# Altium integrated library Diodes - Rectifiers - Single.IntLib: 3 symbols
Pins are listed as number, name and electrical type; pins without a type are passive.

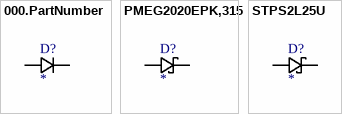
[diagram p0: symbols 000.PartNumber to STPS2L25U]

## 000.PartNumber
designator D?
Digikey Description; Manufacturer: *; Series: *; Package: *; Diode Type: *; Current - Average Rectified (Io): *; Speed: *; Capacitance @ Vr, F: *; Mounting Type: *; Package / Case: *; Supplier Device Package: *; Operating Temperature - Junction: *; Voltage - DC Reverse (Vr) (Max): *; Voltage - Forward (Vf) (Max) @ If: *; Current - Reverse Leakage @ Vr: *; Base Product Number: *; Ozdisan Link: *; Digikey Link: *
pins: A, C

## PMEG2020EPK,315
designator D?
DIODE SCHOTTKY 20V 2A DFN1608D-2; Manufacturer: Nexperia USA Inc.; Speed: Fast Recovery =< 500ns, > 200mA (Io); Capacitance @ Vr, F: 120pF @ 1V, 1MHz; Reverse Recovery Time (trr): 5ns; Voltage - Forward (Vf) (Max) @ If: 450mV @ 2A; Current - Reverse Leakage @ Vr: 900µA @ 20V; Base Product Number: PMEG2020; Series: -; Package: Tape & Reel (TR); Diode Type: Schottky; Current - Average Rectified (Io): 2A; Mounting Type: Surface Mount; Package / Case: 2-XDFN; Supplier Device Package: DFN1608D-2; Operating Temperature - Junction: 150°C (Max); Voltage - DC Reverse (Vr) (Max): 20V; Ozdisan Link: -; Digikey Link: https://www.digikey.com/en/products/detail/nexperia-usa-inc/PMEG2020EPK315/4020972?s=N4IgTCBcDaIAoFkCiBxMAGDS4GkQF0BfIA
footprint NEXPERIA_DFN1608D-2
pins: A, C

## STPS2L25U
designator D?
DIODE SCHOTTKY 25V 2A SMB; Manufacturer: STMicroelectronics; Speed: Fast Recovery =< 500ns, > 200mA (Io); Voltage - Forward (Vf) (Max) @ If: 450mV @ 2A; Current - Reverse Leakage @ Vr: 90µA @ 25V; Base Product Number: STPS2L25; Series: -; Package: Tape & Reel (TR); Diode Type: Schottky; Current - Average Rectified (Io): 2A; Capacitance @ Vr, F: -; Mounting Type: Surface Mount; Package / Case: DO-214AA, SMB; Supplier Device Package: SMB; Operating Temperature - Junction: -; Voltage - DC Reverse (Vr) (Max): 25V; Ozdisan Link: https://ozdisan.com/guc-yari-iletkenleri/diyotlar-modul-diyotlar-ve-dogrultucular/schottky-diyotlar/STPS2L25U; Digikey Link: https://www.digikey.com/en/products/detail/stmicroelectronics/STPS2L25U/1039649
footprint STM_SMB
pins: A, C